# EAGLE library part EDE_702 (library ede)
E-Lab Digital Engineering serial LCD Interface
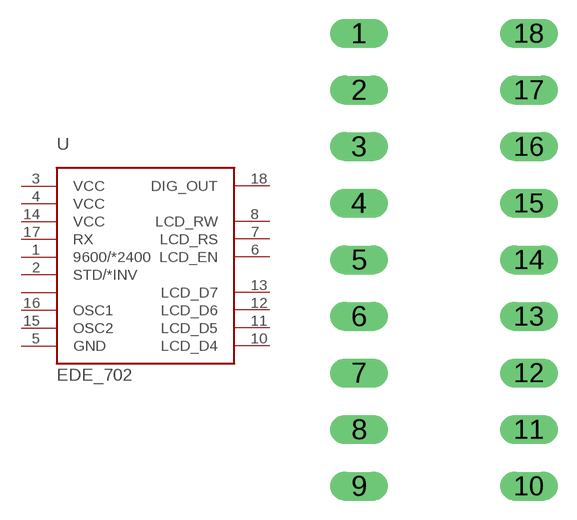
[diagram p1: symbol with the pads of DIP18; footprint DIP18]

Designator prefix U

## EDE_702  [DIP18]
1  9600/*2400  in
2  STD/*INV  in
3  VCC  pwr
4  VCC  pwr
5  GND  pwr
6  LCD_EN  out
7  LCD_RS  out
8  LCD_RW  out
9  P$9  nc
10  LCD_D4  out
11  LCD_D5  out
12  LCD_D6  out
13  LCD_D7  out
14  VCC  pwr
15  OSC2  pas
16  OSC1  pas
17  RX  in
18  DIG_OUT  out

## Footprint DIP18 (pad centres in mm)
drill 0.8 long: 1 -3.81,10.16; 2 -3.81,7.62; 3 -3.81,5.08; 4 -3.81,2.54; 5 -3.81,0; 6 -3.81,-2.54; 7 -3.81,-5.08; 8 -3.81,-7.62; 9 -3.81,-10.16; 10 3.81,-10.16; 11 3.81,-7.62; 12 3.81,-5.08; 13 3.81,-2.54; 14 3.81,0; 15 3.81,2.54; 16 3.81,5.08; 17 3.81,7.62; 18 3.81,10.16